# Altium schematic symbol library Orient.SchLib: 98 symbols (part 4 of 5)
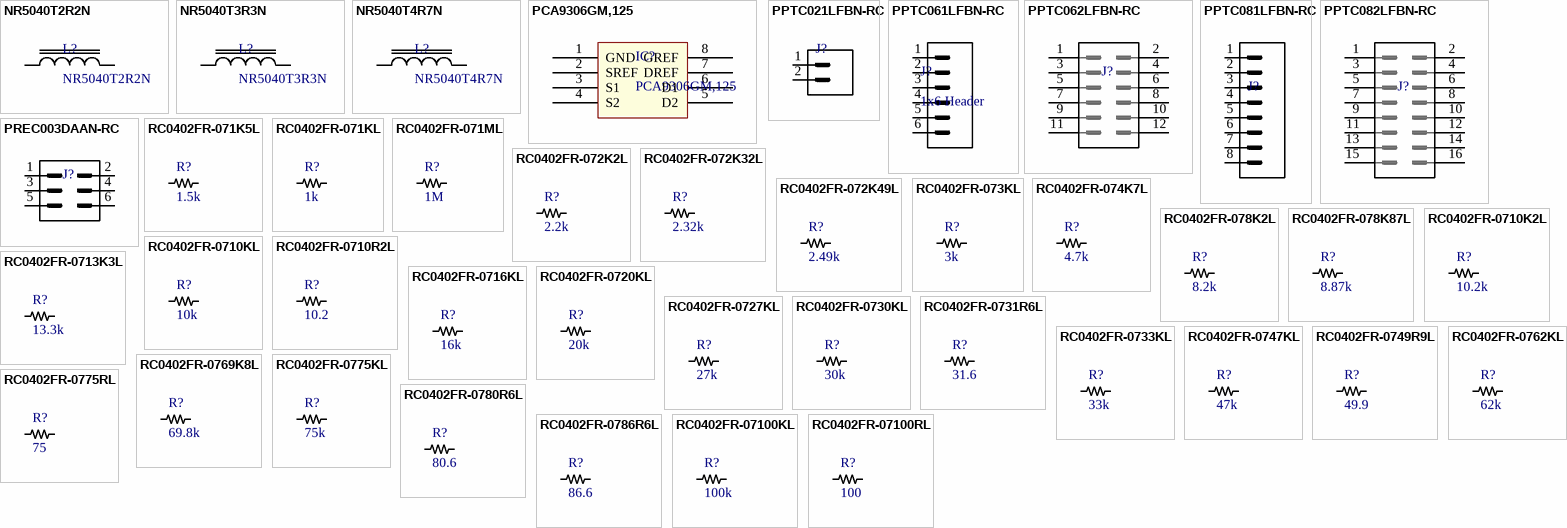
[diagram p6: symbols NR5040T2R2N to RC0402FR-07100RL]

## RC0402FR-07100RL
designator R?, comment 100
Resistor 100Ohm 0402 SMD; Manufacturer: Yageo; Manufacturer Part Number: RC0402FR-07100RL; Power Rating: 62.5mW; Tolerance: 1%; Voltage Rating: 50V; Resistance: 100R; Temperature Coefficient: 100ppm/°C; Supplier 1: Digi-Key; Stock 1: 46531178; Pricing 1: 1=0.10000, 10=0.01600, 100=0.00670, 1000=0.00301, 2500=0.00261, 5000=0.00215 (USD); RoHS: Yes; Case/Package: 0402; Number of Pins: 2; Case Code (Imperial): 0402; Case Code (Metric): 1005; Min Operating Temperature: -55°C; Max Operating Temperature: 155°C; Packaging: Tape and Reel; Termination: SMD/SMT; Composition: Thick Film; Military Standard: Not; Voltage Rating (DC): 50V; Length: 1mm; Height: 0.32mm; Depth: 0.5mm; Width: 0.5mm; REACH SVHC: No SVHC; Lead Free: Lead Free; ComponentLink1URL: https://datasheet.ciiva.com/7849/1784430-7849810.pdf?src-supplier=Element14; ComponentLink1Description: https://datasheet.ciiva.com/7849/1784430-7849810.pdf?src-supplier=Element14; ComponentLink2URL: https://datasheet.ciiva.com/11808/0900766b80c66297-11808765.pdf?src-supplier=RSComponents; ComponentLink2Description: https://datasheet.ciiva.com/11808/0900766b80c66297-11808765.pdf?src-supplier=RSComponents; ComponentLink3URL: https://datasheet.ciiva.com/12667/pyu-rc0402-51-rohs-l-6-r-12667957.pdf?src-supplier=Mouser; ComponentLink3Description: https://datasheet.ciiva.com/12667/pyu-rc0402-51-rohs-l-6-r-12667957.pdf?src-supplier=Mouser; ComponentLink4URL: https://datasheet.ciiva.com/22747/1018594-22747511.pdf?src-supplier=Element14; ComponentLink4Description: https://datasheet.ciiva.com/22747/1018594-22747511.pdf?src-supplier=Element14; ComponentLink5URL: https://datasheet.ciiva.com/28367/1018594-28367226.pdf?src-supplier=Element14; ComponentLink5Description: https://datasheet.ciiva.com/28367/1018594-28367226.pdf?src-supplier=Element14; ComponentLink6URL: https://datasheet.ciiva.com/16740/pyu-rc0402-51-rohs-l-6-r-16740566.pdf?src-supplier=Future+Electronics; ComponentLink6Description: https://datasheet.ciiva.com/16740/pyu-rc0402-51-rohs-l-6-r-16740566.pdf?src-supplier=Future+Electronics; ComponentLink7URL: https://datasheet.ciiva.com/15189/getdatasheetpartid-329466-15189335.pdf?src-supplier=Verical; ComponentLink7Description: https://datasheet.ciiva.com/15189/getdatasheetpartid-329466-15189335.pdf?src-supplier=Verical
footprint RES0402 (Chip Resistor, 2-Leads, Body 1.00x0.50mm, IPC Medium Density)
pins: 1, 2

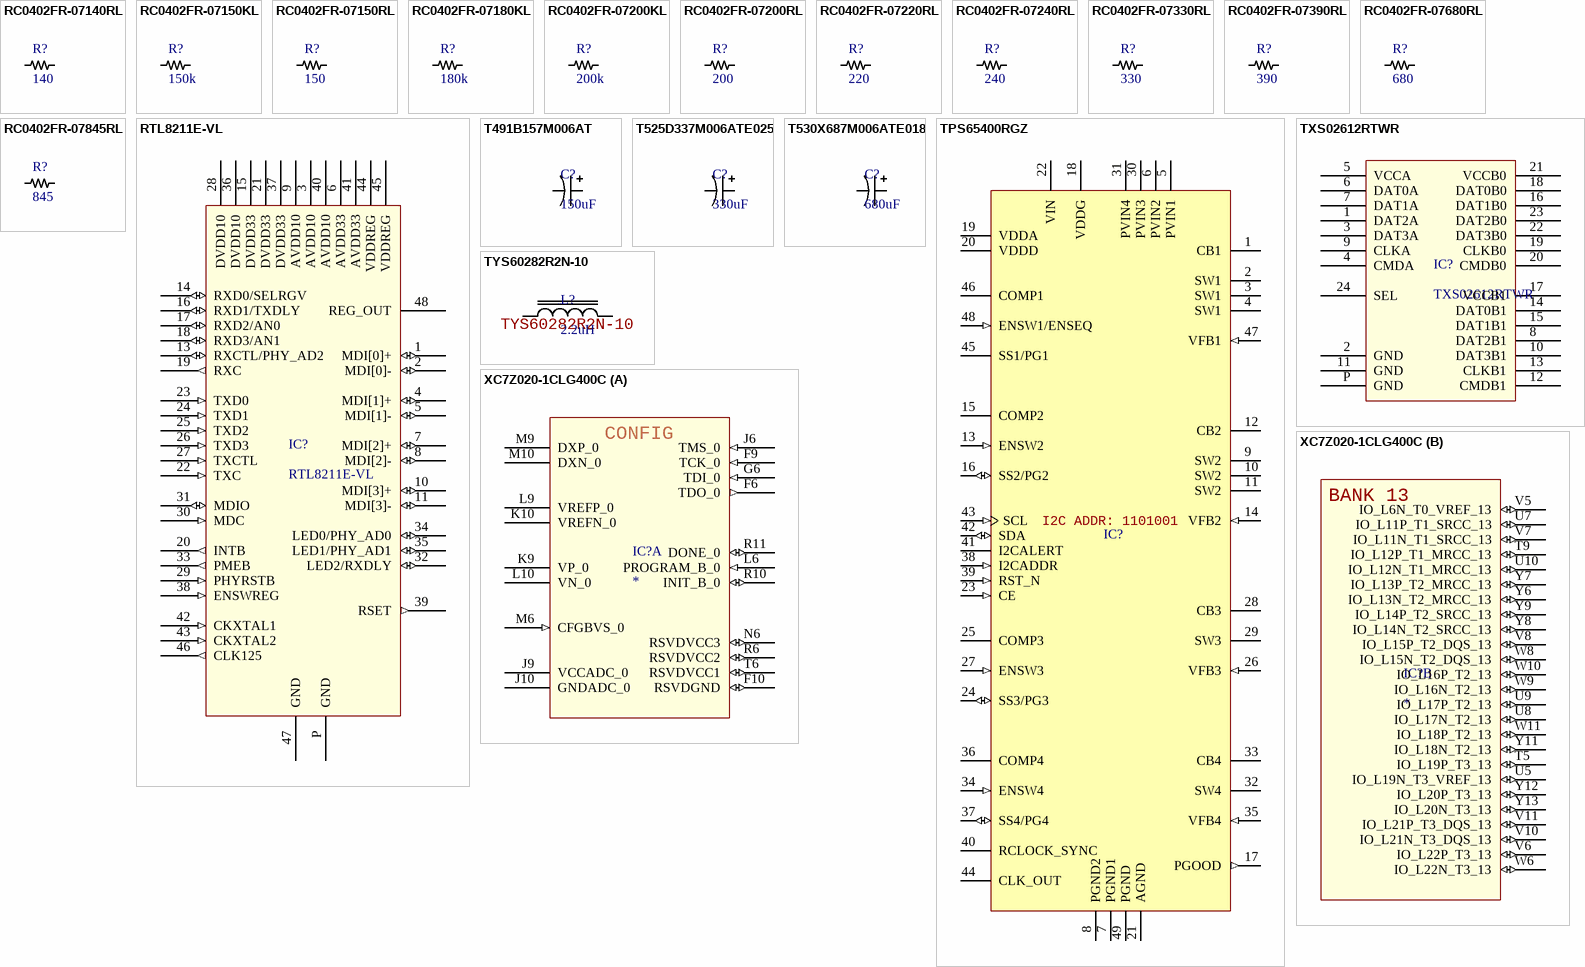
[diagram p2: symbols RC0402FR-07140RL to XC7Z020-1CLG400C]

## RC0402FR-07140RL
designator R?, comment 140
Resistor 140Ohm 0420 SMD; Manufacturer: Yageo; Manufacturer Part Number: RC0402FR-07140RL; Resistance: 140R; Tolerance: 1%; Temperature Coefficient: 100ppm/°C; Power Rating: 62.5mW; Voltage Rating: 50V; Supplier 1: Digi-Key; Stock 1: 485729; Pricing 1: 1=0.10000, 10=0.01600, 100=0.00670, 1000=0.00301, 2500=0.00261, 5000=0.00215 (USD); RoHS: Yes; Case/Package: 0402; Weight: 2.3E-05oz; Contact Plating: Tin,Matte; Case Code (Imperial): 0402; Case Code (Metric): 1005; Min Operating Temperature: -55°C; Max Operating Temperature: 155°C; Composition: Thick Film; Packaging: Tape and Reel; Termination: SMD/SMT; Military Standard: Not; Voltage Rating (DC): 50V; Working Voltage: 50V; Number of Terminations: 2; Length: 1mm; Height: 0.35mm; Width: 0.5mm; Depth: 0.5mm; Lead Free: Lead Free; ComponentLink1URL: https://datasheet.ciiva.com/16744/pyu-rc0402-51-rohs-l-6-r-16744011.pdf?src-supplier=Future+Electronics; ComponentLink1Description: https://datasheet.ciiva.com/16744/pyu-rc0402-51-rohs-l-6-r-16744011.pdf?src-supplier=Future+Electronics; ComponentLink2URL: https://datasheet.ciiva.com/16869/pyu-rc0402-51-rohs-l-6-16869934.pdf?src-supplier=Avnet+Europe; ComponentLink2Description: https://datasheet.ciiva.com/16869/pyu-rc0402-51-rohs-l-6-16869934.pdf?src-supplier=Avnet+Europe; ComponentLink3URL: https://datasheet.ciiva.com/5595/pyu-rc0402-51-rohs-l-6-r-5595957.pdf?src-supplier=Mouser; ComponentLink3Description: https://datasheet.ciiva.com/5595/pyu-rc0402-51-rohs-l-6-r-5595957.pdf?src-supplier=Mouser; ComponentLink4URL: https://datasheet.ciiva.com/28394/pyu-rc0402-51-rohs-l-6-28394198.pdf?src-supplier=Avnet+Europe; ComponentLink4Description: https://datasheet.ciiva.com/28394/pyu-rc0402-51-rohs-l-6-28394198.pdf?src-supplier=Avnet+Europe; ComponentLink5URL: https://datasheet.ciiva.com/8887/pyu-rc0402-51-rohs-l-6-8887401.pdf?src-supplier=Avnet; ComponentLink5Description: https://datasheet.ciiva.com/8887/pyu-rc0402-51-rohs-l-6-8887401.pdf?src-supplier=Avnet; ComponentLink6URL: https://datasheet.ciiva.com/15189/getdatasheetpartid-323703-15189355.pdf?src-supplier=Verical; ComponentLink6Description: https://datasheet.ciiva.com/15189/getdatasheetpartid-323703-15189355.pdf?src-supplier=Verical
footprint RES0402 (Chip Resistor, 2-Leads, Body 1.00x0.50mm, IPC Medium Density)
pins: 1, 2

## RC0402FR-07150KL
designator R?, comment 150k
Resistor 150kOhm 0402 SMD; Manufacturer: Yageo; Manufacturer Part Number: RC0402FR-07150KL; Power Rating: 62.5mW; Tolerance: 1%; Temperature Coefficient: 100ppm/°C; Resistance: 150kR; Voltage Rating: 50V; Max Power Dissipation: 63mW; Supplier 1: Digi-Key; Stock 1: 4029837; Pricing 1: 1=0.10000, 10=0.01600, 100=0.00670, 1000=0.00301, 2500=0.00261, 5000=0.00215 (USD); RoHS: Yes; Case/Package: 0402; Number of Pins: 2; Case Code (Metric): 1005; Case Code (Imperial): 0402; Min Operating Temperature: -55°C; Max Operating Temperature: 155°C; Package Quantity: 1; Packaging: Tape and Reel; Voltage Rating (DC): 50V; Composition: Thick Film; Number of Terminations: 2; Termination: SMD/SMT; Military Standard: Not; Working Voltage: 50V; Features: Moisture Resistant; Length: 1mm; Height: 0.016inch; Depth: 0.5mm; Width: 0.5mm; REACH SVHC: No SVHC; Lead Free: Lead Free; ComponentLink1URL: https://datasheet.ciiva.com/2453/pyu-r-int-thick-7-2453601.pdf?src-supplier=Digi-Key; ComponentLink1Description: https://datasheet.ciiva.com/2453/pyu-r-int-thick-7-2453601.pdf?src-supplier=Digi-Key; ComponentLink2URL: https://datasheet.ciiva.com/2453/pyu-r-int-thick-7-2453602.pdf?src-supplier=Digi-Key; ComponentLink2Description: https://datasheet.ciiva.com/2453/pyu-r-int-thick-7-2453602.pdf?src-supplier=Digi-Key; ComponentLink3URL: https://datasheet.ciiva.com/2453/pyu-r-int-thick-7-2453603.pdf?src-supplier=Digi-Key; ComponentLink3Description: https://datasheet.ciiva.com/2453/pyu-r-int-thick-7-2453603.pdf?src-supplier=Digi-Key; ComponentLink4URL: https://datasheet.ciiva.com/7983/1018594-7983494.pdf?src-supplier=Element14; ComponentLink4Description: https://datasheet.ciiva.com/7983/1018594-7983494.pdf?src-supplier=Element14; ComponentLink5URL: https://datasheet.ciiva.com/16741/pyu-rc0402-51-rohs-l-6-r-16741080.pdf?src-supplier=Future+Electronics; ComponentLink5Description: https://datasheet.ciiva.com/16741/pyu-rc0402-51-rohs-l-6-r-16741080.pdf?src-supplier=Future+Electronics; ComponentLink6URL: https://datasheet.ciiva.com/6067/1686128-6067913.pdf?src-supplier=Farnell; ComponentLink6Description: https://datasheet.ciiva.com/6067/1686128-6067913.pdf?src-supplier=Farnell; ComponentLink7URL: https://datasheet.ciiva.com/7849/1018594-7849836.pdf?src-supplier=Element14; ComponentLink7Description: https://datasheet.ciiva.com/7849/1018594-7849836.pdf?src-supplier=Element14; ComponentLink8URL: https://datasheet.ciiva.com/15189/getdatasheetpartid-326416-15189356.pdf?src-supplier=Verical; ComponentLink8Description: https://datasheet.ciiva.com/15189/getdatasheetpartid-326416-15189356.pdf?src-supplier=Verical; ComponentLink9URL: https://datasheet.ciiva.com/7849/1018594-7849837.pdf?src-supplier=Element14; ComponentLink9Description: https://datasheet.ciiva.com/7849/1018594-7849837.pdf?src-supplier=Element14
footprint RES0402 (Chip Resistor, 2-Leads, Body 1.00x0.50mm, IPC Medium Density)
pins: 1, 2

## RC0402FR-07150RL
designator R?, comment 150
Resistor 150Ohm 0402 SMD; Manufacturer: Yageo; Manufacturer Part Number: RC0402FR-07150RL; Resistance: 150R; Power Rating: 62.5mW; Tolerance: 1%; Voltage Rating: 50V; Temperature Coefficient: 100ppm/°C; Max Power Dissipation: 63mW; Supplier 1: Digi-Key; Stock 1: 7297787; Pricing 1: 1=0.10000, 10=0.01600, 100=0.00670, 1000=0.00301, 2500=0.00261, 5000=0.00215 (USD); RoHS: Yes; Case/Package: 0402; Case Code (Metric): 1005; Case Code (Imperial): 0402; Min Operating Temperature: -55°C; Max Operating Temperature: 155°C; Packaging: Tape and Reel; Package Quantity: 1; Composition: Thick Film; Number of Terminations: 2; Termination: SMD/SMT; Military Standard: Not; Working Voltage: 50V; Features: Moisture Resistant; Length: 1mm; Height: 0.016inch; Width: 0.02inch; Depth: 0.5mm; REACH SVHC: No SVHC; Lead Free: Lead Free; ComponentLink1URL: https://datasheet.ciiva.com/11808/0900766b80c66297-11808422.pdf?src-supplier=RSComponents; ComponentLink1Description: https://datasheet.ciiva.com/11808/0900766b80c66297-11808422.pdf?src-supplier=RSComponents; ComponentLink2URL: https://datasheet.ciiva.com/7983/1018594-7983495.pdf?src-supplier=Element14; ComponentLink2Description: https://datasheet.ciiva.com/7983/1018594-7983495.pdf?src-supplier=Element14; ComponentLink3URL: https://datasheet.ciiva.com/16740/pyu-rc0402-51-rohs-l-6-r-16740923.pdf?src-supplier=Future+Electronics; ComponentLink3Description: https://datasheet.ciiva.com/16740/pyu-rc0402-51-rohs-l-6-r-16740923.pdf?src-supplier=Future+Electronics; ComponentLink4URL: https://datasheet.ciiva.com/2453/pyu-r-int-thick-7-2453373.pdf?src-supplier=Digi-Key; ComponentLink4Description: https://datasheet.ciiva.com/2453/pyu-r-int-thick-7-2453373.pdf?src-supplier=Digi-Key; ComponentLink5URL: https://datasheet.ciiva.com/15189/getdatasheetpartid-330680-15189357.pdf?src-supplier=Verical; ComponentLink5Description: https://datasheet.ciiva.com/15189/getdatasheetpartid-330680-15189357.pdf?src-supplier=Verical; ComponentLink6URL: https://datasheet.ciiva.com/2453/pyu-r-int-thick-7-2453374.pdf?src-supplier=Digi-Key; ComponentLink6Description: https://datasheet.ciiva.com/2453/pyu-r-int-thick-7-2453374.pdf?src-supplier=Digi-Key; ComponentLink7URL: https://datasheet.ciiva.com/5558/pyu-rc0402-51-rohs-l-6-r-5558110.pdf?src-supplier=Mouser; ComponentLink7Description: https://datasheet.ciiva.com/5558/pyu-rc0402-51-rohs-l-6-r-5558110.pdf?src-supplier=Mouser; ComponentLink8URL: https://datasheet.ciiva.com/7849/1018594-7849838.pdf?src-supplier=Element14; ComponentLink8Description: https://datasheet.ciiva.com/7849/1018594-7849838.pdf?src-supplier=Element14; ComponentLink9URL: https://datasheet.ciiva.com/2453/pyu-r-int-thick-7-2453375.pdf?src-supplier=Digi-Key; ComponentLink9Description: https://datasheet.ciiva.com/2453/pyu-r-int-thick-7-2453375.pdf?src-supplier=Digi-Key; ComponentLink10URL: https://datasheet.ciiva.com/7849/1018594-7849839.pdf?src-supplier=Element14; ComponentLink10Description: https://datasheet.ciiva.com/7849/1018594-7849839.pdf?src-supplier=Element14
footprint RES0402 (Chip Resistor, 2-Leads, Body 1.00x0.50mm, IPC Medium Density)
pins: 1, 2

## RC0402FR-07180KL
designator R?, comment 180k
Resistor 180kOhm 0402 SMD; Manufacturer: Yageo; Manufacturer Part Number: RC0402FR-07180KL; Tolerance: 1%; Power Rating: 63mW; Temperature Coefficient: 100ppm/°C; Resistance: 180kR; Voltage Rating: 50V; Supplier 1: Digi-Key; Stock 1: 2802128; Pricing 1: 1=0.10000, 10=0.01600, 100=0.00670, 1000=0.00301, 2500=0.00261, 5000=0.00215 (USD); RoHS: Yes; Case/Package: Molded; Case Code (Imperial): 0402; Case Code (Metric): 1005; Min Operating Temperature: -55°C; Max Operating Temperature: 155°C; Packaging: Tape and Reel; Termination: SMD/SMT; Military Standard: Not; Composition: Thick Film; Length: 1mm; Depth: 0.5mm; REACH SVHC: Unknown; Lead Free: Lead Free; ComponentLink1URL: https://datasheet.ciiva.com/7983/1018594-7983497.pdf?src-supplier=Element14; ComponentLink1Description: https://datasheet.ciiva.com/7983/1018594-7983497.pdf?src-supplier=Element14; ComponentLink2URL: https://datasheet.ciiva.com/7849/1018594-7849851.pdf?src-supplier=Element14; ComponentLink2Description: https://datasheet.ciiva.com/7849/1018594-7849851.pdf?src-supplier=Element14; ComponentLink3URL: https://datasheet.ciiva.com/7849/1018594-7849852.pdf?src-supplier=Element14; ComponentLink3Description: https://datasheet.ciiva.com/7849/1018594-7849852.pdf?src-supplier=Element14; ComponentLink4URL: https://datasheet.ciiva.com/17025/pyu-rc0402-51-rohs-l-6-r-17025693.pdf?src-supplier=Future+Electronics; ComponentLink4Description: https://datasheet.ciiva.com/17025/pyu-rc0402-51-rohs-l-6-r-17025693.pdf?src-supplier=Future+Electronics; ComponentLink5URL: https://datasheet.ciiva.com/12656/pyu-rc0402-51-rohs-l-6-r-12656911.pdf?src-supplier=Mouser; ComponentLink5Description: https://datasheet.ciiva.com/12656/pyu-rc0402-51-rohs-l-6-r-12656911.pdf?src-supplier=Mouser
footprint RES0402 (Chip Resistor, 2-Leads, Body 1.00x0.50mm, IPC Medium Density)
pins: 1, 2

## RC0402FR-07200KL
designator R?, comment 200k
Resistor 200kOhm 0402 SMD; Manufacturer: Yageo; Manufacturer Part Number: RC0402FR-07200KL; Power Rating: 62.5mW; Tolerance: 1%; Temperature Coefficient: 100ppm/°C; Resistance: 200kR; Voltage Rating: 50V; Max Power Dissipation: 63mW; Supplier 1: Digi-Key; Stock 1: 4653507; Pricing 1: 1=0.10000, 10=0.01600, 100=0.00670, 1000=0.00301, 2500=0.00261, 5000=0.00215 (USD); RoHS: Yes; Case/Package: 0402; Case Code (Metric): 1005; Case Code (Imperial): 0402; Min Operating Temperature: -55°C; Max Operating Temperature: 155°C; Package Quantity: 1; Packaging: Tape and Reel; Composition: Thick Film; Number of Terminations: 2; Termination: SMD/SMT; Military Standard: Not; Voltage Rating (DC): 50V; Working Voltage: 50V; Features: Moisture Resistant; Length: 1mm; Height: 0.016inch; Depth: 0.5mm; Width: 0.02inch; REACH SVHC: No SVHC; Lead Free: Lead Free; ComponentLink1URL: https://datasheet.ciiva.com/2453/pyu-r-int-thick-7-2453556.pdf?src-supplier=Digi-Key; ComponentLink1Description: https://datasheet.ciiva.com/2453/pyu-r-int-thick-7-2453556.pdf?src-supplier=Digi-Key; ComponentLink2URL: https://datasheet.ciiva.com/2453/pyu-r-int-thick-7-2453557.pdf?src-supplier=Digi-Key; ComponentLink2Description: https://datasheet.ciiva.com/2453/pyu-r-int-thick-7-2453557.pdf?src-supplier=Digi-Key; ComponentLink3URL: https://datasheet.ciiva.com/15189/getdatasheetpartid-323720-15189381.pdf?src-supplier=Verical; ComponentLink3Description: https://datasheet.ciiva.com/15189/getdatasheetpartid-323720-15189381.pdf?src-supplier=Verical; ComponentLink4URL: https://datasheet.ciiva.com/2453/pyu-r-int-thick-7-2453558.pdf?src-supplier=Digi-Key; ComponentLink4Description: https://datasheet.ciiva.com/2453/pyu-r-int-thick-7-2453558.pdf?src-supplier=Digi-Key; ComponentLink5URL: https://datasheet.ciiva.com/12667/pyu-rc0402-51-rohs-l-6-r-12667911.pdf?src-supplier=Mouser; ComponentLink5Description: https://datasheet.ciiva.com/12667/pyu-rc0402-51-rohs-l-6-r-12667911.pdf?src-supplier=Mouser; ComponentLink6URL: https://datasheet.ciiva.com/7849/1018594-7849896.pdf?src-supplier=Element14; ComponentLink6Description: https://datasheet.ciiva.com/7849/1018594-7849896.pdf?src-supplier=Element14; ComponentLink7URL: https://datasheet.ciiva.com/7849/1018594-7849897.pdf?src-supplier=Element14; ComponentLink7Description: https://datasheet.ciiva.com/7849/1018594-7849897.pdf?src-supplier=Element14; ComponentLink8URL: https://datasheet.ciiva.com/46394/1018594-46394953.pdf?src-supplier=Element14; ComponentLink8Description: https://datasheet.ciiva.com/46394/1018594-46394953.pdf?src-supplier=Element14; ComponentLink9URL: https://datasheet.ciiva.com/16740/pyu-rc0402-51-rohs-l-6-r-16740636.pdf?src-supplier=Future+Electronics; ComponentLink9Description: https://datasheet.ciiva.com/16740/pyu-rc0402-51-rohs-l-6-r-16740636.pdf?src-supplier=Future+Electronics
footprint RES0402 (Chip Resistor, 2-Leads, Body 1.00x0.50mm, IPC Medium Density)
pins: 1, 2

## RC0402FR-07200RL
designator R?, comment 200
Resistor 200Ohm 0402 SMD; Manufacturer: Yageo; Manufacturer Part Number: RC0402FR-07200RL; Tolerance: 1%; Temperature Coefficient: 100ppm/°C; Resistance: 200R; Power Rating: 63mW; Voltage Rating (DC): 50V; Supplier 1: Digi-Key; Stock 1: 6380122; Pricing 1: 1=0.10000, 10=0.01600, 100=0.00670, 1000=0.00301, 2500=0.00261, 5000=0.00215 (USD); RoHS: Yes; Case/Package: 0402; Case Code (Metric): 1005; Case Code (Imperial): 0402; Min Operating Temperature: -55°C; Max Operating Temperature: 155°C; Composition: Thick Film; Packaging: Tape and Reel; Voltage Rating: 50V; Package Quantity: 1; Number of Terminations: 2; Termination: SMD/SMT; Military Standard: Not; Max Power Dissipation: 63mW; Features: Moisture Resistant; Length: 1mm; Height: 0.016inch; Depth: 0.5mm; Width: 0.02inch; REACH SVHC: No SVHC; Lead Free: Lead Free; ComponentLink1URL: https://datasheet.ciiva.com/16804/pyu-rc0402-51-rohs-l-6-r-16804406.pdf?src-supplier=Future+Electronics; ComponentLink1Description: https://datasheet.ciiva.com/16804/pyu-rc0402-51-rohs-l-6-r-16804406.pdf?src-supplier=Future+Electronics; ComponentLink2URL: https://datasheet.ciiva.com/5562/pyu-rc0402-51-rohs-l-6-r-8721-5562539.pdf?src-supplier=Mouser; ComponentLink2Description: https://datasheet.ciiva.com/5562/pyu-rc0402-51-rohs-l-6-r-8721-5562539.pdf?src-supplier=Mouser; ComponentLink3URL: https://datasheet.ciiva.com/2553/pyu-r-int-thick-7-2553232.pdf?src-supplier=Digi-Key; ComponentLink3Description: https://datasheet.ciiva.com/2553/pyu-r-int-thick-7-2553232.pdf?src-supplier=Digi-Key; ComponentLink4URL: https://datasheet.ciiva.com/7983/1018594-7983509.pdf?src-supplier=Element14; ComponentLink4Description: https://datasheet.ciiva.com/7983/1018594-7983509.pdf?src-supplier=Element14; ComponentLink5URL: https://datasheet.ciiva.com/15189/getdatasheetpartid-331152-15189383.pdf?src-supplier=Verical; ComponentLink5Description: https://datasheet.ciiva.com/15189/getdatasheetpartid-331152-15189383.pdf?src-supplier=Verical; ComponentLink6URL: https://datasheet.ciiva.com/7849/1018594-7849898.pdf?src-supplier=Element14; ComponentLink6Description: https://datasheet.ciiva.com/7849/1018594-7849898.pdf?src-supplier=Element14; ComponentLink7URL: https://datasheet.ciiva.com/7849/1018594-7849899.pdf?src-supplier=Element14; ComponentLink7Description: https://datasheet.ciiva.com/7849/1018594-7849899.pdf?src-supplier=Element14; ComponentLink8URL: https://datasheet.ciiva.com/2553/pyu-r-int-thick-7-2553230.pdf?src-supplier=Digi-Key; ComponentLink8Description: https://datasheet.ciiva.com/2553/pyu-r-int-thick-7-2553230.pdf?src-supplier=Digi-Key; ComponentLink9URL: https://datasheet.ciiva.com/2553/pyu-r-int-thick-7-2553231.pdf?src-supplier=Digi-Key; ComponentLink9Description: https://datasheet.ciiva.com/2553/pyu-r-int-thick-7-2553231.pdf?src-supplier=Digi-Key
footprint RES0402 (Chip Resistor, 2-Leads, Body 1.00x0.50mm, IPC Medium Density)
pins: 1, 2

## RC0402FR-07220RL
designator R?, comment 220
Resistor 220Ohm 0402 SMD; Manufacturer: Yageo; Manufacturer Part Number: RC0402FR-07220RL; Resistance: 220R; Power Rating: 62.5mW; Tolerance: 1%; Voltage Rating: 50V; Temperature Coefficient: 100ppm/°C; Max Power Dissipation: 63mW; Supplier 1: Digi-Key; Stock 1: 2459194; Pricing 1: 1=0.10000, 10=0.01600, 100=0.00670, 1000=0.00301, 2500=0.00261, 5000=0.00215 (USD); RoHS: Yes; Case/Package: 0402; Number of Pins: 2; Case Code (Imperial): 0402; Case Code (Metric): 1005; Min Operating Temperature: -55°C; Max Operating Temperature: 155°C; Packaging: Tape and Reel; Voltage Rating (DC): 50V; Package Quantity: 1; Termination: SMD/SMT; Composition: Thick Film; Number of Terminations: 2; Military Standard: Not; Features: Moisture Resistant; Length: 1mm; Height: 0.016inch; Width: 0.02inch; Depth: 0.5mm; REACH SVHC: No SVHC; Lead Free: Lead Free; ComponentLink1URL: https://datasheet.ciiva.com/11819/0900766b80c66297-11819466.pdf?src-supplier=RSComponents; ComponentLink1Description: https://datasheet.ciiva.com/11819/0900766b80c66297-11819466.pdf?src-supplier=RSComponents; ComponentLink2URL: https://datasheet.ciiva.com/2453/pyu-r-int-thick-7-2453460.pdf?src-supplier=Digi-Key; ComponentLink2Description: https://datasheet.ciiva.com/2453/pyu-r-int-thick-7-2453460.pdf?src-supplier=Digi-Key; ComponentLink3URL: https://datasheet.ciiva.com/2453/pyu-r-int-thick-7-2453461.pdf?src-supplier=Digi-Key; ComponentLink3Description: https://datasheet.ciiva.com/2453/pyu-r-int-thick-7-2453461.pdf?src-supplier=Digi-Key; ComponentLink4URL: https://datasheet.ciiva.com/2453/pyu-r-int-thick-7-2453462.pdf?src-supplier=Digi-Key; ComponentLink4Description: https://datasheet.ciiva.com/2453/pyu-r-int-thick-7-2453462.pdf?src-supplier=Digi-Key; ComponentLink5URL: https://datasheet.ciiva.com/16746/pyu-rc0402-51-rohs-l-6-r-16746831.pdf?src-supplier=Future+Electronics; ComponentLink5Description: https://datasheet.ciiva.com/16746/pyu-rc0402-51-rohs-l-6-r-16746831.pdf?src-supplier=Future+Electronics
footprint RES0402 (Chip Resistor, 2-Leads, Body 1.00x0.50mm, IPC Medium Density)
pins: 1, 2

## RC0402FR-07240RL
designator R?, comment 240
Resistor 240Ohm 0402 SMD; Manufacturer: Yageo Phycomp; Manufacturer Part Number: RC0402FR-07240RL; Tolerance: 1%; Power Rating: 63mW; Temperature Coefficient: 100ppm/°C; Voltage Rating (DC): 50V; Resistance: 240R; Supplier 1: Digi-Key; Stock 1: 5368761; Pricing 1: 1=0.10000, 10=0.01600, 100=0.00670, 1000=0.00301, 2500=0.00261, 5000=0.00215 (USD); RoHS: Yes; Mount: Surface Mount; Case/Package: 0402; Number of Pins: 2; Min Operating Temperature: -55°C; Max Operating Temperature: 155°C; Packaging: Cut Tape; Length: 1mm; Height: 0.32mm; Depth: 0.5mm; REACH SVHC: No SVHC; Lead Free: Lead Free; ComponentLink1URL: http://www.mouser.com/ds/2/447/PYu-RC0402_51_RoHS_L_6_r-8721.pdf?src-supplier=Mouser; ComponentLink1Description: http://www.mouser.com/ds/2/447/PYu-RC0402_51_RoHS_L_6_r-8721.pdf?src-supplier=Mouser; ComponentLink2URL: http://www.farnell.com/datasheets/2167052.pdf?src-supplier=Farnell; ComponentLink2Description: http://www.farnell.com/datasheets/2167052.pdf?src-supplier=Farnell; ComponentLink3URL: http://www.yageo.com/documents/recent/PYu-RC_Group_51_RoHS_L_9.pdf?src-supplier=Digi-Key; ComponentLink3Description: http://www.yageo.com/documents/recent/PYu-RC_Group_51_RoHS_L_9.pdf?src-supplier=Digi-Key; ComponentLink4URL: http://www.yageo.com/documents/recent/PYu-RC_Group_51_RoHS_L_10.pdf?src-supplier=Digi-Key; ComponentLink4Description: http://www.yageo.com/documents/recent/PYu-RC_Group_51_RoHS_L_10.pdf?src-supplier=Digi-Key; ComponentLink5URL: http://www.farnell.com/datasheets/2167052.pdf?src-supplier=Element14; ComponentLink5Description: http://www.farnell.com/datasheets/2167052.pdf?src-supplier=Element14
footprint RES0402 (Chip Resistor, 2-Leads, Body 1.00x0.50mm, IPC Medium Density)
pins: 1, 2

## RC0402FR-07330RL
designator R?, comment 330
Resistor 330Ohm 0402 SMD; Manufacturer: Yageo; Manufacturer Part Number: RC0402FR-07330RL; Resistance: 330R; Tolerance: 1%; Temperature Coefficient: 100ppm/°C; Power Rating: 62.5mW; Voltage Rating: 50V; Max Power Dissipation: 63mW; Supplier 1: Digi-Key; Stock 1: 5558897; Pricing 1: 1=0.10000, 10=0.01600, 100=0.00670, 1000=0.00301, 2500=0.00261, 5000=0.00215 (USD); RoHS: Yes; Case/Package: 0402; Case Code (Metric): 1005; Case Code (Imperial): 0402; Min Operating Temperature: -55°C; Max Operating Temperature: 155°C; Packaging: Tape and Reel; Package Quantity: 1; Composition: Thick Film; Number of Terminations: 2; Termination: SMD/SMT; Military Standard: Not; Features: Moisture Resistant; Length: 0.039inch; Height: 0.016inch; Width: 0.02inch; Depth: 0.5mm; REACH SVHC: Unknown; Lead Free: Lead Free; ComponentLink1URL: https://datasheet.ciiva.com/11819/0900766b80c66297-11819490.pdf?src-supplier=RSComponents; ComponentLink1Description: https://datasheet.ciiva.com/11819/0900766b80c66297-11819490.pdf?src-supplier=RSComponents; ComponentLink2URL: https://datasheet.ciiva.com/7849/1018594-7849962.pdf?src-supplier=Element14; ComponentLink2Description: https://datasheet.ciiva.com/7849/1018594-7849962.pdf?src-supplier=Element14; ComponentLink3URL: https://datasheet.ciiva.com/17083/pyu-rc0402-51-rohs-l-6-r-17083994.pdf?src-supplier=Future+Electronics; ComponentLink3Description: https://datasheet.ciiva.com/17083/pyu-rc0402-51-rohs-l-6-r-17083994.pdf?src-supplier=Future+Electronics; ComponentLink4URL: https://datasheet.ciiva.com/7849/1018594-7849963.pdf?src-supplier=Element14; ComponentLink4Description: https://datasheet.ciiva.com/7849/1018594-7849963.pdf?src-supplier=Element14; ComponentLink5URL: https://datasheet.ciiva.com/2453/pyu-r-int-thick-7-2453661.pdf?src-supplier=Digi-Key; ComponentLink5Description: https://datasheet.ciiva.com/2453/pyu-r-int-thick-7-2453661.pdf?src-supplier=Digi-Key; ComponentLink6URL: https://datasheet.ciiva.com/2453/pyu-r-int-thick-7-2453662.pdf?src-supplier=Digi-Key; ComponentLink6Description: https://datasheet.ciiva.com/2453/pyu-r-int-thick-7-2453662.pdf?src-supplier=Digi-Key; ComponentLink7URL: https://datasheet.ciiva.com/2453/pyu-r-int-thick-7-2453663.pdf?src-supplier=Digi-Key; ComponentLink7Description: https://datasheet.ciiva.com/2453/pyu-r-int-thick-7-2453663.pdf?src-supplier=Digi-Key; ComponentLink8URL: https://datasheet.ciiva.com/12656/pyu-rc0402-51-rohs-l-6-r-12656815.pdf?src-supplier=Mouser; ComponentLink8Description: https://datasheet.ciiva.com/12656/pyu-rc0402-51-rohs-l-6-r-12656815.pdf?src-supplier=Mouser
footprint RES0402 (Chip Resistor, 2-Leads, Body 1.00x0.50mm, IPC Medium Density)
pins: 1, 2

## RC0402FR-07390RL
designator R?, comment 390
Resistor 390Ohm 0402 SMD; Manufacturer: Yageo; Manufacturer Part Number: RC0402FR-07390RL; Resistance: 390R; Tolerance: 1%; Power Rating: 63mW; Voltage Rating: 50V; Temperature Coefficient: 100ppm/°C; Supplier 1: Digi-Key; Stock 1: 362323; Pricing 1: 1=0.10000, 10=0.01600, 100=0.00670, 1000=0.00301, 2500=0.00261, 5000=0.00215 (USD); RoHS: Yes; Case/Package: 0402; Weight: 2.3E-05oz; Case Code (Imperial): 0402; Case Code (Metric): 1005; Min Operating Temperature: -55°C; Max Operating Temperature: 155°C; Composition: Thick Film; Packaging: Tape and Reel; Package Quantity: 1; Termination: SMD/SMT; Number of Terminations: 2; Military Standard: Not; Max Power Dissipation: 63mW; Working Voltage: 50V; Features: Moisture Resistant; Length: 1mm; Height: 0.016inch; Width: 0.5mm; Depth: 0.5mm; REACH SVHC: Unknown; Lead Free: Lead Free; ComponentLink1URL: https://datasheet.ciiva.com/11819/0900766b80c66297-11819482.pdf?src-supplier=RSComponents; ComponentLink1Description: https://datasheet.ciiva.com/11819/0900766b80c66297-11819482.pdf?src-supplier=RSComponents; ComponentLink2URL: https://datasheet.ciiva.com/16742/pyu-rc0402-51-rohs-l-6-r-16742218.pdf?src-supplier=Future+Electronics; ComponentLink2Description: https://datasheet.ciiva.com/16742/pyu-rc0402-51-rohs-l-6-r-16742218.pdf?src-supplier=Future+Electronics; ComponentLink3URL: https://datasheet.ciiva.com/2519/pyu-r-int-thick-7-2519165.pdf?src-supplier=Digi-Key; ComponentLink3Description: https://datasheet.ciiva.com/2519/pyu-r-int-thick-7-2519165.pdf?src-supplier=Digi-Key; ComponentLink4URL: https://datasheet.ciiva.com/2519/pyu-r-int-thick-7-2519167.pdf?src-supplier=Digi-Key; ComponentLink4Description: https://datasheet.ciiva.com/2519/pyu-r-int-thick-7-2519167.pdf?src-supplier=Digi-Key; ComponentLink5URL: https://datasheet.ciiva.com/7849/1018594-7849978.pdf?src-supplier=Element14; ComponentLink5Description: https://datasheet.ciiva.com/7849/1018594-7849978.pdf?src-supplier=Element14; ComponentLink6URL: https://datasheet.ciiva.com/7849/1018594-7849979.pdf?src-supplier=Element14; ComponentLink6Description: https://datasheet.ciiva.com/7849/1018594-7849979.pdf?src-supplier=Element14; ComponentLink7URL: https://datasheet.ciiva.com/2519/pyu-r-int-thick-7-2519166.pdf?src-supplier=Digi-Key; ComponentLink7Description: https://datasheet.ciiva.com/2519/pyu-r-int-thick-7-2519166.pdf?src-supplier=Digi-Key
footprint RES0402 (Chip Resistor, 2-Leads, Body 1.00x0.50mm, IPC Medium Density)
pins: 1, 2

## RC0402FR-07680RL
designator R?, comment 680
Resistor 680Ohm 0402 SMD; Manufacturer: Yageo; Manufacturer Part Number: RC0402FR-07680RL; Resistance: 680R; Tolerance: 1%; Temperature Coefficient: 100ppm/°C; Power Rating: 63mW; Voltage Rating: 50V; Supplier 1: Digi-Key; Stock 1: 1052750; Pricing 1: 1=0.10000, 10=0.01600, 100=0.00670, 1000=0.00301, 2500=0.00261, 5000=0.00215 (USD); RoHS: Yes; Case/Package: 0402; Case Code (Imperial): 0402; Case Code (Metric): 1005; Min Operating Temperature: -55°C; Max Operating Temperature: 155°C; Composition: Thick Film; Packaging: Tape and Reel; Termination: SMD/SMT; Military Standard: Not; Length: 1mm; Depth: 0.5mm; REACH SVHC: No SVHC; Lead Free: Lead Free; ComponentLink1URL: https://datasheet.ciiva.com/7850/1018594-7850070.pdf?src-supplier=Element14; ComponentLink1Description: https://datasheet.ciiva.com/7850/1018594-7850070.pdf?src-supplier=Element14; ComponentLink2URL: https://datasheet.ciiva.com/7850/1018594-7850071.pdf?src-supplier=Element14; ComponentLink2Description: https://datasheet.ciiva.com/7850/1018594-7850071.pdf?src-supplier=Element14; ComponentLink3URL: https://datasheet.ciiva.com/12667/pyu-rc0402-51-rohs-l-6-r-12667916.pdf?src-supplier=Mouser; ComponentLink3Description: https://datasheet.ciiva.com/12667/pyu-rc0402-51-rohs-l-6-r-12667916.pdf?src-supplier=Mouser; ComponentLink4URL: https://datasheet.ciiva.com/17042/pyu-rc0402-51-rohs-l-6-r-17042399.pdf?src-supplier=Future+Electronics; ComponentLink4Description: https://datasheet.ciiva.com/17042/pyu-rc0402-51-rohs-l-6-r-17042399.pdf?src-supplier=Future+Electronics
footprint RES0402 (Chip Resistor, 2-Leads, Body 1.00x0.50mm, IPC Medium Density)
pins: 1, 2

## RC0402FR-07845RL
designator R?, comment 845
Resistor 845Ohm 0402 SMD; Manufacturer: Yageo; Manufacturer Part Number: RC0402FR-07845RL; Resistance: 845R; Tolerance: 1%; Temperature Coefficient: 100ppm/°C; Power Rating: 62.5mW; Voltage Rating: 50V; Max Power Dissipation: 63mW; Supplier 1: Digi-Key; Stock 1: 331843; Pricing 1: 1=0.10000, 10=0.01600, 100=0.00670, 1000=0.00301, 2500=0.00261, 5000=0.00215 (USD); RoHS: Yes; Case/Package: 0402; Contact Plating: Tin,Matte; Case Code (Imperial): 0402; Case Code (Metric): 1005; Min Operating Temperature: -55°C; Max Operating Temperature: 155°C; Composition: Thick Film; Packaging: Tape and Reel; Termination: SMD/SMT; Number of Terminations: 2; Military Standard: Not; Features: Moisture Resistant; Length: 1mm; Height: 0.016inch; Width: 0.5mm; Depth: 0.5mm; Lead Free: Lead Free; ComponentLink1URL: https://datasheet.ciiva.com/16858/pyu-rc0402-51-rohs-l-6-16858634.pdf?src-supplier=Avnet+Europe; ComponentLink1Description: https://datasheet.ciiva.com/16858/pyu-rc0402-51-rohs-l-6-16858634.pdf?src-supplier=Avnet+Europe; ComponentLink2URL: https://datasheet.ciiva.com/17423/pyu-rc0402-51-rohs-l-6-r-17423772.pdf?src-supplier=Future+Electronics; ComponentLink2Description: https://datasheet.ciiva.com/17423/pyu-rc0402-51-rohs-l-6-r-17423772.pdf?src-supplier=Future+Electronics
footprint RES0402 (Chip Resistor, 2-Leads, Body 1.00x0.50mm, IPC Medium Density)
pins: 1, 2

## RTL8211E-VL
designator IC?
Ethernet transceiver; ComponentLink1Description: Datasheet; ComponentLink1URL: https://www.semiconductorstore.com/pages/asp/DownloadDirect.asp?sid=1572527471375
footprint QFN48 (QFN, 48-Leads, Body 6.00x6.00mm, Pitch 0.40mm, Thermal Pad 4.40x4.40mm, IPC Medium Density)
pins: 1 MDI[0]+ (io), 2 MDI[0]- (io), 3 AVDD10, 4 MDI[1]+ (io), 5 MDI[1]- (io), 6 AVDD33, 7 MDI[2]+ (io), 8 MDI[2]- (io), 9 AVDD10, 10 MDI[3]+ (io), 11 MDI[3]- (io), 13 RXCTL/PHY_AD2 (io), 14 RXD0/SELRGV (io), 15 DVDD33, 16 RXD1/TXDLY (io), 17 RXD2/AN0 (io), 18 RXD3/AN1 (io), 19 RXC (out), 20 INTB (out), 21 DVDD33, 22 TXC (in), 23 TXD0 (in), 24 TXD1 (in), 25 TXD2 (in), 26 TXD3 (in), 27 TXCTL (in), 28 DVDD10, 29 PHYRSTB (in), 30 MDC (in), 31 MDIO (io), 32 LED2/RXDLY (io), 33 PMEB (out), 34 LED0/PHY_AD0 (io), 35 LED1/PHY_AD1 (io), 36 DVDD10, 37 DVDD33, 38 ENSWREG (in), 39 RSET (out), 40 AVDD10, 41 AVDD33, 42 CKXTAL1 (in), 43 CKXTAL2 (in), 44 VDDREG, 45 VDDREG, 46 CLK125 (out), 47 GND, 48 REG_OUT, P GND

## T491B157M006AT
designator C?, comment 150uF
Tant Poly Cap 150uF KEMET-B; Manufacturer: KEMET; Manufacturer Part Number: T491B157M006AT; Tolerance: 20%; ESR (Equivalent Series Resistance): 3R; Voltage Rating: 6.3V; Ripple Current: 168mA; Leakage Current: 9.5uA; Polarity: Polar; Life (Hours): 2000Hour; Dissipation Factor: 15%; Supplier 1: Digi-Key; Stock 1: 901; Pricing 1: 1=1.06000, 10=0.84000, 100=0.62980, 500=0.47584, 1000=0.41987 (USD); RoHS: Yes; Mount: Surface Mount; Case/Package: 1411; Case Code (Metric): 3528; Case Code (Imperial): 1411; Min Operating Temperature: -55°C; Max Operating Temperature: 125°C; Capacitance: 150uF; Packaging: Tape and Reel; Package Quantity: 2000; Termination: SMD/SMT; Voltage Rating (DC): 6.3V; Features: General Purpose; Length: 3.5mm; Height: 2.1mm; Width: 0.11inch; Height - Seated (Max): 0.083inch; Depth: 2.8mm; Radiation Hardening: No; REACH SVHC: No SVHC; Lead Free: Lead Free; ComponentLink1URL: https://datasheet.ciiva.com/14885/kem-t2005-t491-14885003.pdf?src-supplier=Digi-Key; ComponentLink1Description: https://datasheet.ciiva.com/14885/kem-t2005-t491-14885003.pdf?src-supplier=Digi-Key; ComponentLink2URL: https://datasheet.ciiva.com/14885/kem-t2005-t491-14885005.pdf?src-supplier=Digi-Key; ComponentLink2Description: https://datasheet.ciiva.com/14885/kem-t2005-t491-14885005.pdf?src-supplier=Digi-Key; ComponentLink3URL: https://datasheet.ciiva.com/14885/kem-t2005-t491-14885004.pdf?src-supplier=Digi-Key; ComponentLink3Description: https://datasheet.ciiva.com/14885/kem-t2005-t491-14885004.pdf?src-supplier=Digi-Key; ComponentLink4URL: https://datasheet.ciiva.com/12910/kem-t2005-t491-12910606.pdf?src-supplier=Mouser; ComponentLink4Description: https://datasheet.ciiva.com/12910/kem-t2005-t491-12910606.pdf?src-supplier=Mouser
footprint KEMET-B (Molded Capacitor, 2-Leads, Body 3.50x2.80mm, IPC Medium Density)
pins: 1, 2

## T525D337M006ATE025
designator C?, comment 330uF
Tant Poly Cap 330uF KEMET-D; Manufacturer: KEMET; Manufacturer Part Number: T525D337M006ATE025; Dielectric Material: Tantalum; Tolerance: 20%; ESR (Equivalent Series Resistance): 25mR; Voltage Rating: 6.3V; Ripple Current: 800uA; Leakage Current: 280uA; Polarity: Polar; Dissipation Factor: 10%; Supplier 1: Digi-Key; Stock 1: 1126; Pricing 1: 1=3.73000, 10=3.00400, 100=2.34340 (USD); RoHS: Yes; Mount: Surface Mount; Case/Package: 2917; Number of Pins: 2; Case Code (Imperial): 2917; Case Code (Metric): 7343; Min Operating Temperature: -55°C; Max Operating Temperature: 125°C; Capacitance: 330uF; Packaging: Tape and Reel; Package Quantity: 1; Termination: SMD/SMT; Voltage Rating (DC): 6.3V; Features: General Purpose; Length: 7.3mm; Height: 3.1mm; Width: 4.3mm; Height - Seated (Max): 0.122inch; Depth: 4.3mm; REACH SVHC: No SVHC; Lead Free: Lead Free; ComponentLink1URL: https://datasheet.ciiva.com/3798/f3102-t525-3798112.pdf?src-supplier=Arrow; ComponentLink1Description: https://datasheet.ciiva.com/3798/f3102-t525-3798112.pdf?src-supplier=Arrow; ComponentLink2URL: https://datasheet.ciiva.com/5459/kem-t2017-t525-225624-5459232.pdf?src-supplier=Mouser; ComponentLink2Description: https://datasheet.ciiva.com/5459/kem-t2017-t525-225624-5459232.pdf?src-supplier=Mouser; ComponentLink3URL: https://datasheet.ciiva.com/261/kem-t2017-t525-261987.pdf?src-supplier=Digi-Key; ComponentLink3Description: https://datasheet.ciiva.com/261/kem-t2017-t525-261987.pdf?src-supplier=Digi-Key; ComponentLink4URL: https://datasheet.ciiva.com/261/kem-t2017-t525-261986.pdf?src-supplier=Digi-Key; ComponentLink4Description: https://datasheet.ciiva.com/261/kem-t2017-t525-261986.pdf?src-supplier=Digi-Key; ComponentLink5URL: https://datasheet.ciiva.com/261/kem-t2017-t525-261988.pdf?src-supplier=Digi-Key; ComponentLink5Description: https://datasheet.ciiva.com/261/kem-t2017-t525-261988.pdf?src-supplier=Digi-Key
footprint KEMET-D (Molded Capacitor, 2-Leads, Body 7.30x4.30mm, IPC Medium Density)
pins: 1, 2

## T530X687M006ATE018
designator C?, comment 680uF
Tant Poly Cap 680uF KEMET-D; Manufacturer: KEMET; Manufacturer Part Number: T530X687M006ATE018; Voltage Rating: 6.3V; Tolerance: 20%; ESR (Equivalent Series Resistance): 18mR; Ripple Current: 3.9A; Leakage Current: 428uA; Polarity: Polar; Dissipation Factor: 8%; Supplier 1: Digi-Key; Stock 1: 14514; Pricing 1: 1=6.08000, 10=5.40500, 100=4.32400 (USD); RoHS: Yes; Mount: Surface Mount; Case/Package: 2917; Case Code (Metric): 7343; Case Code (Imperial): 2917; Min Operating Temperature: -55°C; Max Operating Temperature: 125°C; Package Quantity: 1; Capacitance: 680uF; Packaging: Tape and Reel; Voltage Rating (DC): 6.3V; Termination: SMD/SMT; Features: General Purpose; Length: 7.3mm; Height: 4.3mm; Width: 0.169inch; Height - Seated (Max): 0.169inch; Depth: 4.3mm; Radiation Hardening: No; REACH SVHC: No SVHC; ComponentLink1URL: https://datasheet.ciiva.com/22691/1761610-22691523.pdf?src-supplier=Element14; ComponentLink1Description: https://datasheet.ciiva.com/22691/1761610-22691523.pdf?src-supplier=Element14; ComponentLink2URL: https://datasheet.ciiva.com/11214/datasheetpn-t530x687m006ate018-11214052.pdf?src-supplier=Avnet; ComponentLink2Description: https://datasheet.ciiva.com/11214/datasheetpn-t530x687m006ate018-11214052.pdf?src-supplier=Avnet; ComponentLink3URL: https://datasheet.ciiva.com/22691/1763371-22691524.pdf?src-supplier=Element14; ComponentLink3Description: https://datasheet.ciiva.com/22691/1763371-22691524.pdf?src-supplier=Element14; ComponentLink4URL: https://datasheet.ciiva.com/262/docfinderpartnumber-t530x687m006ate018-262864.pdf?src-supplier=Digi-Key; ComponentLink4Description: https://datasheet.ciiva.com/262/docfinderpartnumber-t530x687m006ate018-262864.pdf?src-supplier=Digi-Key
footprint KEMET-D (Molded Capacitor, 2-Leads, Body 7.30x4.30mm, IPC Medium Density)
pins: 1, 2

## TPS65400RGZ
designator IC?
Flexible Power Management Unit with PMBus/I2C Interface, 4.5 to 18 V, -40 to 85 degC, 48-Pin VQFN (RGZ), Green (RoHS & no Sb/Br), Tape and Reel; Output Voltage: 0.6V; Pd - Power Dissipation: 4.5W; Topology: Buck; Input Voltage MIN: 4.5V; Operating Supply Current: 6.3mA; Switching Frequency: 2.2MHz; Brand: TexasInstruments; Input Voltage MAX: 18V; Number of Outputs: 4Output; Load Regulation: 0.1%/A; Output Current: 4A; Unit Weight: 0.004938oz; Input Voltage: 4.5Vto18V; RoHS: True; Datasheet URL: http://www.ti.com/lit/ds/symlink/tps65400.pdf; Height: 1mm; Package Description: 48-Pin Plastic Quad Flat No-lead Package, Body 7 x 7 mm, Pitch 0.5mm, Thermal Pad 4.08 x 4.08 mm; Product: SwitchingRegulators; Packaging: Reel; Operating Temperature Range: -40Cto+85C; Mounting Style: SMD/SMT; Maximum Operating Temperature: +85C; Minimum Operating Temperature: -40C; Length: 7.15mm; Factory Pack Quantity: 250; Width: 7.15mm; Package Reference: RGZ0048B; Mounting Technology: SurfaceMount; Datasheet Version: Rev. B, 09/2015; Manufacturer: TexasInstruments; Manufacturer URL: http://www.ti.com/; Type: SwitchingRegulator; Series: TPS65400; Shutdown: Shutdown; Product Category: VoltageRegulators-SwitchingRegulators; Package / Case: VQFN-48; ComponentLink1Description: Datasheet; ComponentLink1URL: http://www.ti.com/lit/ds/symlink/tps65400.pdf
footprint QFN48 (QFN, 48-Leads, Body 6.00x6.00mm, Pitch 0.40mm, Thermal Pad 4.40x4.40mm, IPC Medium Density)
pins: 1 CB1 "Bootstrap pin for high-side MOSFET gate drive for SW1", 2 SW1 "Switch pin for SW1", 3 SW1 "Switch pin for SW1", 4 SW1 "Switch pin for SW1", 5 PVIN1 (power) "Power input for buck switching regulator SW1", 6 PVIN2 (power) "Power input for SW2", 7 PGND1 (power) "Power ground for buck converters", 8 PGND2 (power) "Power ground for buck converters", 9 SW2 "Switch pin for SW2", 10 SW2 "Switch pin for SW2", 11 SW2 "Switch pin for SW2", 12 CB2 "Bootstrap pin for SW2 high-side MOSFET gate drive", 13 ENSW2 (in) "Enable input pin for SW2. Active high. 2-uA internal pullup current is inside.", 14 VFB2 (in) "Feedback input pin for SW2", 15 COMP2 "Compensation pin for external compensation network for SW2. Pulling this line high to VDDD configures the SW1 controller to control both SW1 and SW2.", 16 SS2/PG2 (io), 17 PGOOD (out) "Default PGOOD signal is for all switchers. It can be changed according to (D2h) PIN_CONFIG_00. If all switchers are disabled, PGOOD is low.", 18 VDDG (power) "Supply for gate drives. Bypass locally to PGND.", 19 VDDA (power) "Output of internal regulator for analog controls.", 20 VDDD (power) "3.3-V output of internal regulator digital controls", 21 AGND (power) "Ground connection for analog controls", 22 VIN (power) "Analog VIN. Power input pin for VDDD, VDDA, and VGATE subregulator power", 23 CE (in) "Chip enables. Internal pull-up current will default to high if the pin is left floating. Connect to an open-drain output to pull low to disable. Driving with a push-pull output is not recommended. When low, internal (See Datasheet)", 24 SS3/PG3 (io), 25 COMP3 "Compensation pin for external compensation network for SW3", 26 VFB3 (in) "Feedback input pin for SW3", 27 ENSW3 (in) "Enable input pin for SW3. Active high. 2-uA internal pullup current is inside.", 28 CB3 "Bootstrap pin for SW3 high-side MOSFET gate drive", 29 SW3 "Switch pin for SW3. Max rated output current is 2 A.", 30 PVIN3 (power) "Power input for buck switching regulator SW3", 31 PVIN4 (power) "Power input for SW4", 32 SW4 "Switch pin for SW4. Max rated output current is 2 A.", 33 CB4 "Bootstrap pin for SW4 high-side MOSFET gate drive", 34 ENSW4 (in) "Enable input pin for SW4. Active high. 2-uA internal pullup current is inside.", 35 VFB4 (in) "Feedback input pin for SW4", 36 COMP4 "Compensation pin for external compensation network for SW4. Pulling this line high to VDDD configures the SW3 controller to control both SW3 and SW4.", 37 SS4/PG4 (io), 38 I2CADDR (in) "Select I2C address with resistor to AGND", 39 RST_N (in) "Reset of digital logic. When low, all switchers are disabled. Configuration is reloaded from EEPROM when RESET_N is deasserted.", 40 RCLOCK_SYNC "Resistor for setting master clock frequency from 275 kHz to 2.2 MHz or for clock sync", 41 I2CALERT (oc) "Open-drain output that is pulled low for 200 us when a timeout condition is detected by the I2 C watchdog on either SDA or SCL.", 42 SDA (io) "Data input/output pin for I2C bus", 43 SCL (in) "Clock input pin for I2C bus", 44 CLK_OUT (oc) "Clock output signal. Open-collector output, requires pull up.", 45 SS1/PG1, 46 COMP1 "Compensation pin for external compensation network for SW1", 47 VFB1 (in) "Feedback input pin for SW1", 48 ENSW1/ENSEQ (in), 49 PGND (power)
text: I2C ADDR: 1101001

## TXS02612RTWR
designator IC?
SDIO Port Expander 24WQFN; Manufacturer: Texas Instruments; Min Supply Voltage: 1.1V; Max Supply Voltage: 3.6V; Operating Supply Current: 36uA; Frequency: 60MHz; Number of Outputs: 12; Number of Bits: 4; Supplier 1: Digi-Key; Manufacturer Part Number: TXS02612RTWR; Stock 1: 47945; Pricing 1: 1=1.41000, 10=1.25800, 100=0.98080, 500=0.81020, 1000=0.63963 (USD); RoHS: Yes; Mount: Surface Mount; Number of Pins: 24; Contact Plating: Gold; Min Operating Temperature: -40°C; Max Operating Temperature: 85°C; Packaging: Tape and Reel; Package Quantity: 1; Interface: SDIO; Length: 4.15mm; Height: 0.75mm; Width: 4.15mm; Radiation Hardening: No; REACH SVHC: No SVHC; Lead Free: Lead Free; ComponentLink1URL: https://datasheet.ciiva.com/14194/txs02612-14194898.pdf?src-supplier=Avnet; ComponentLink1Description: https://datasheet.ciiva.com/14194/txs02612-14194898.pdf?src-supplier=Avnet; ComponentLink2URL: https://datasheet.ciiva.com/22652/1723912-22652098.pdf?src-supplier=Element14; ComponentLink2Description: https://datasheet.ciiva.com/22652/1723912-22652098.pdf?src-supplier=Element14; ComponentLink3URL: https://datasheet.ciiva.com/1784/txs02612-1784272.pdf?src-supplier=Digi-Key; ComponentLink3Description: https://datasheet.ciiva.com/1784/txs02612-1784272.pdf?src-supplier=Digi-Key; ComponentLink4URL: https://datasheet.ciiva.com/15134/getdatasheetpartid-225882-15134505.pdf?src-supplier=Verical; ComponentLink4Description: https://datasheet.ciiva.com/15134/getdatasheetpartid-225882-15134505.pdf?src-supplier=Verical; ComponentLink5URL: https://datasheet.ciiva.com/41460/001188030-da-01-en-ic-sdio-port-ex-txs02612rtwr-wqfn-24-tid-41460267.pdf?src-supplier=Conrad; ComponentLink5Description: https://datasheet.ciiva.com/41460/001188030-da-01-en-ic-sdio-port-ex-txs02612rtwr-wqfn-24-tid-41460267.pdf?src-supplier=Conrad
footprint WQFN24 (QFN, 24-Leads, Body 4.00x4.00mm, Pitch 0.50mm, Thermal Pad 2.45x2.45mm, IPC Medium Density)
pins: 1 DAT2A, 2 GND, 3 DAT3A, 4 CMDA, 5 VCCA, 6 DAT0A, 7 DAT1A, 8 DAT2B1, 9 CLKA, 10 DAT3B1, 11 GND, 12 CMDB1, 13 CLKB1, 14 DAT0B1, 15 DAT1B1, 16 DAT1B0, 17 VCCB1, 18 DAT0B0, 19 CLKB0, 20 CMDB0, 21 VCCB0, 22 DAT3B0, 23 DAT2B0, 24 SEL, P GND

## TYS60282R2N-10
designator L?, comment 2.2uH
Inductor 2.2uH; Manufacturer: Laird Steward; Manufacturer Part Number: TYS60282R2N-10; Tolerance: 30%; Current Rating: 3.75A; Saturation Current: 5.1A; Shielding: Shielded; DC Resistance (DCR): 20mR; Self Resonant Frequency: 48MHz; Test Frequency: 100kHz; Supplier 1: Digi-Key; Stock 1: 7309; Pricing 1: 1=0.67000, 10=0.58700, 100=0.41940, 500=0.35226, 1000=0.28516 (USD); RoHS: Yes; Mount: Surface Mount; Case/Package: Nonstandard; Min Operating Temperature: -40°C; Max Operating Temperature: 125°C; Package Quantity: 2000; Packaging: Tape and Reel; Inductance: 2.2uH; Max DC Current: 3.75A; Termination: SMD/SMT; Length: 0.236inch; Height: 2.8mm; Width: 0.236inch; Height - Seated (Max): 0.118inch; ComponentLink1URL: http://www.mouser.com/ds/2/223/SIP-DS-TYS%206028%200413-558563.pdf?src-supplier=Mouser; ComponentLink1Description: http://www.mouser.com/ds/2/223/SIP-DS-TYS%206028%200413-558563.pdf?src-supplier=Mouser; ComponentLink3URL: https://assets.lairdtech.com/home/brandworld/files/Catalog_Power%20Inductor%20TYS%20SERIES%200617.pdf?src-supplier=Digi-Key; ComponentLink3Description: https://assets.lairdtech.com/home/brandworld/files/Catalog_Power%20Inductor%20TYS%20SERIES%200617.pdf?src-supplier=Digi-Key
pins: 1, 2

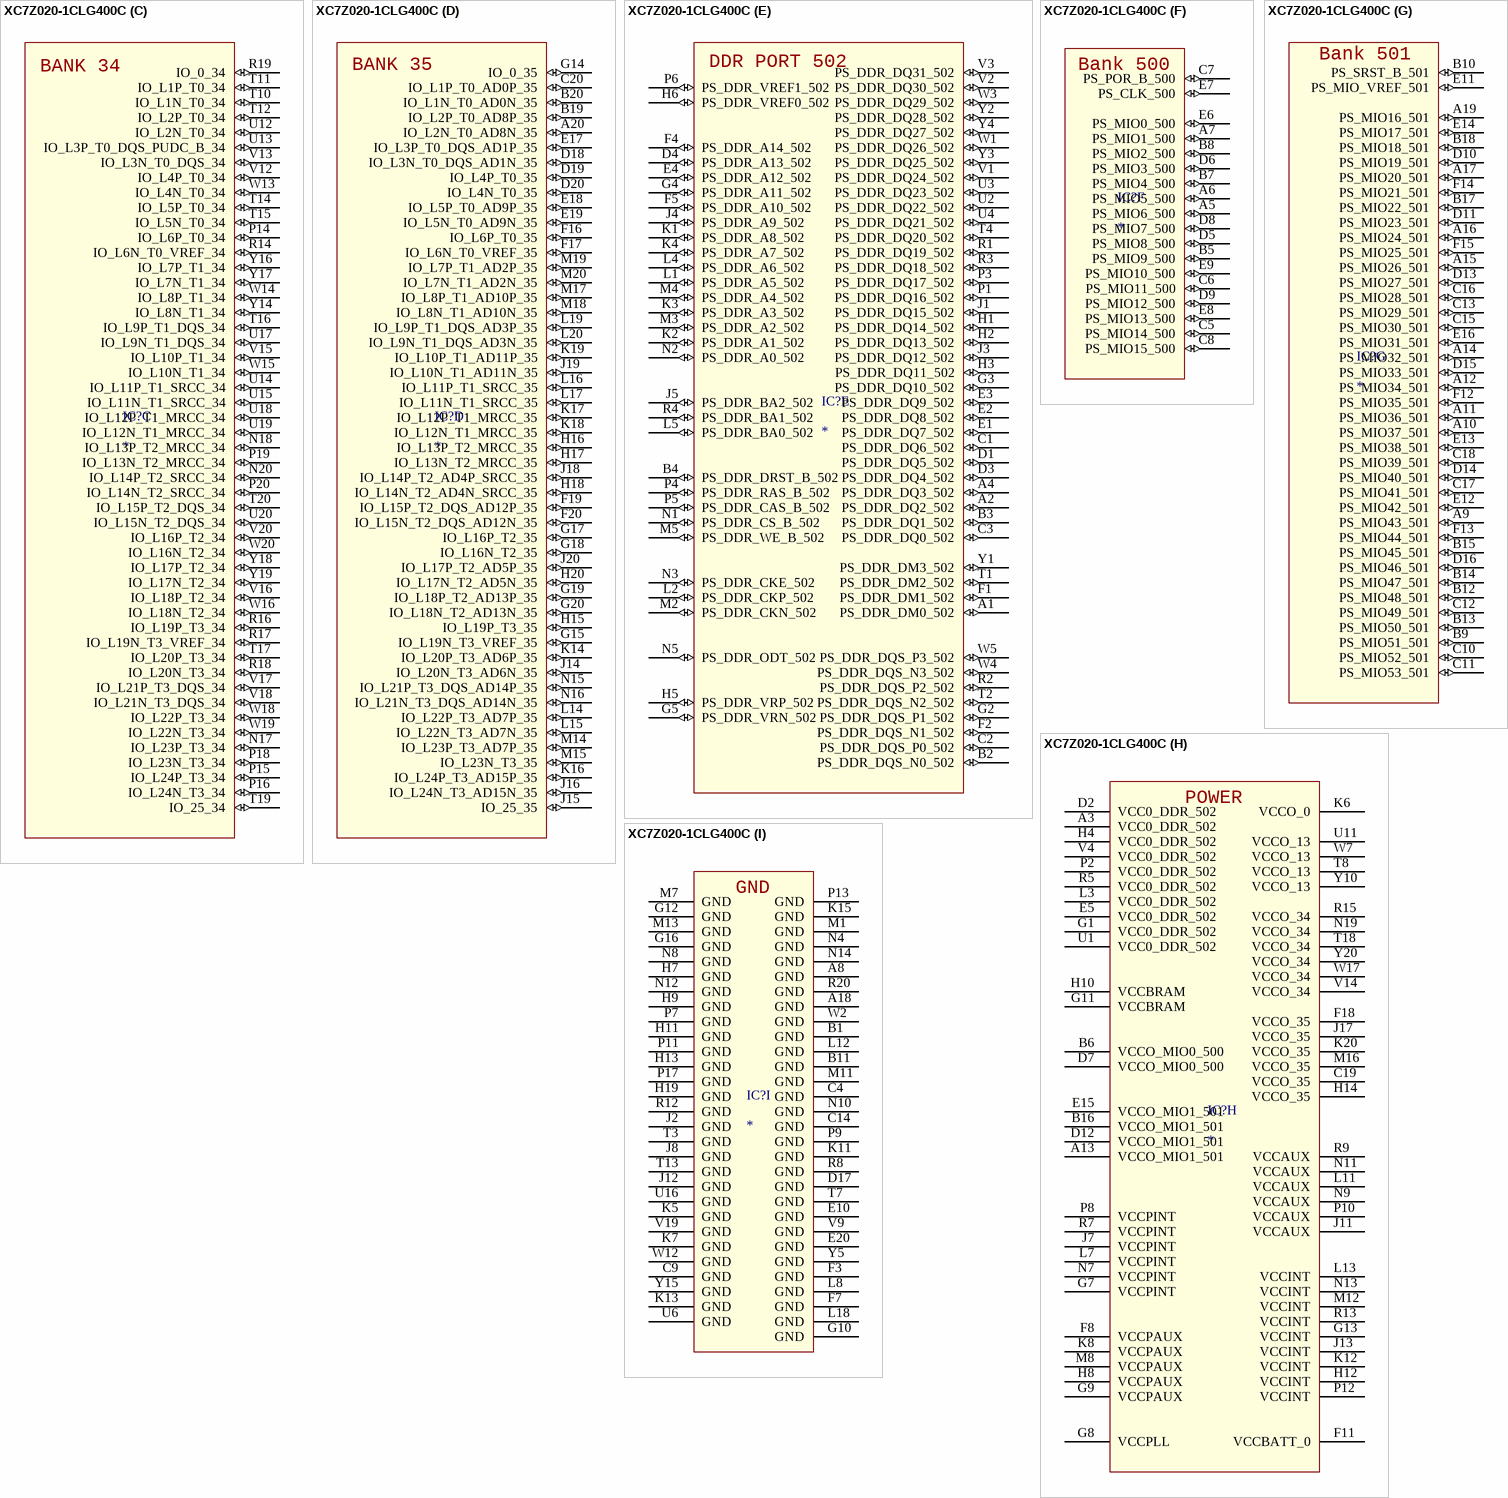
[diagram p3: symbol XC7Z020-1CLG400C]